# EAGLE library part FTDI_HEADER (library mbed-connectors)
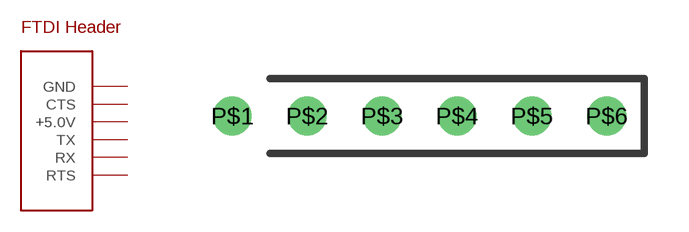
[diagram p9: symbol with the pads of FTDI_HEADER; footprint FTDI_HEADER]

Designator prefix CON

## FTDI_HEADER  [FTDI_HEADER]
P$1  GND
P$2  CTS
P$3  +5.0V
P$4  TX
P$5  RX
P$6  RTS

## Footprint FTDI_HEADER (pad centres in mm)
drill 0.8: P$1 0,0; P$2 2.54,0; P$3 5.08,0; P$4 7.62,0; P$5 10.16,0; P$6 12.7,0